# EAGLE library part PIC_PORTD_IF (library PartsForProto)
PIC GPIO インターフェース
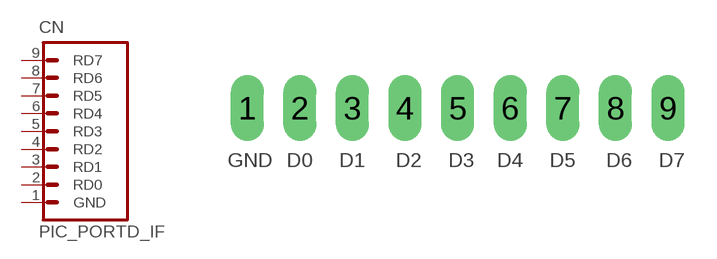
[diagram p15: symbol with the pads of PIC_PORTD_IF_9PIN; footprint PIC_PORTD_IF_9PIN]

Designator prefix CN

## PIC_PORTD_IF  [PIC_PORTD_IF_9PIN]
1  GND  pas
2  RD0
3  RD1
4  RD2
5  RD3
6  RD4
7  RD5
8  RD6
9  RD7

## Footprint PIC_PORTD_IF_9PIN (pad centres in mm)
PIN HEADER
drill 1 pad 1.6 long: 1 0,0; 2 2.54,0; 3 5.08,0; 4 7.62,0; 5 10.16,0; 6 12.7,0; 7 15.24,0; 8 17.78,0; 9 20.32,0